# Altium footprint library SamacSys.PcbLib: 32 footprints (part 1 of 2)
Each footprint in its own frame and in the unit in brackets; x right, y up, seen from the top. Pads: shape width x height; smd on the part's side, far side on the other; paste and mask are expansions set on the pad; w line width, h text height; cw(c..) or ccw(c..) is an arc to the next point about the centre after c.
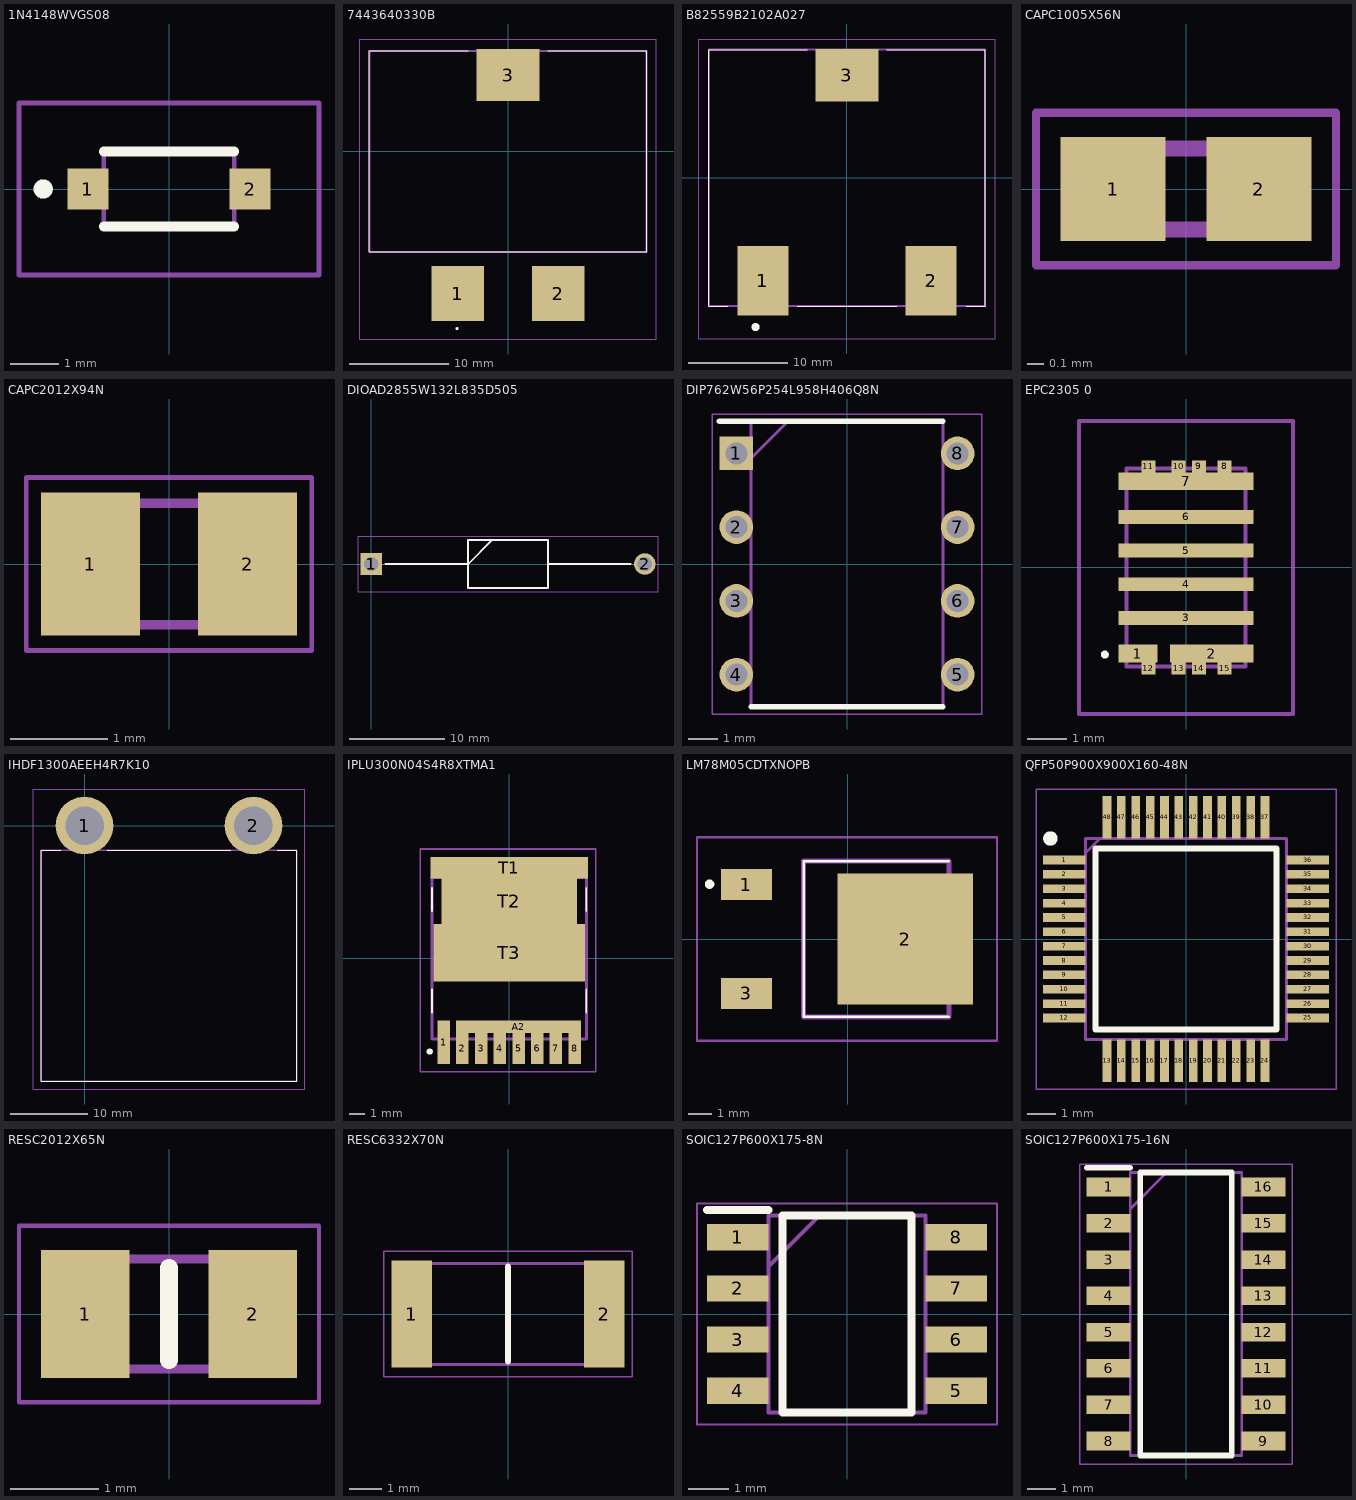
[diagram p0: the footprints below, top view; thin cyan lines are the x and y axes]

## 1N4148WVGS08 [mm]
pads (2):
  rect 0.85x0.85 smd: 1(-1.675,0) 2(1.675,0)
Top Overlay:
  lines w0.2: -1.35,-0.775 1.35,-0.775 ; -1.35,0.775 1.35,0.775 ; -2.6,-0.1 cw(c-2.6,0) -2.6,0.1 cw(c-2.6,0) -2.6,-0.1
Mechanical 13:
  lines w0.1: -1.35,-0.775 1.35,-0.775 1.35,0.775 -1.35,0.775 -1.35,-0.775
Mechanical 15:
  lines w0.1: -3.1,-1.775 3.1,-1.775 3.1,1.775 -3.1,1.775 -3.1,-1.775
3D body "1N4148W-V-GS08.stp": height 1.26, standoff 0, extent -1.854,-0.775 1.854,0.775

## 7443640330B [mm]
pads (3):
  rect 5.33x5.59 smd: 1(-5.075,-14.355) 2(5.075,-14.355)
  rect 6.35x5.28 smd: 3(0,7.72)
Top Overlay:
  lines w0.1: -14,-10.15 14,-10.15 ; -14,-10.15 14,-10.15 ; -14,-10.15 -14,10.15 ; -14,-10.15 -14,10.15 ; -14,10.15 -4,10.15 -14,10.15 ; 14,-10.15 14,10.15 ; 14,-10.15 14,10.15 ; 14,10.15 4,10.15 14,10.15
  lines w0.2: -5.2,-17.9 ccw(c-5.15,-17.9) -5.1,-17.9 ; -5.2,-17.9 cw(c-5.15,-17.9) -5.1,-17.9 ; -5.2,-17.9 ccw(c-5.15,-17.9) -5.1,-17.9
Mechanical 13:
  lines w0.2: -14,-10.15 -14,10.15 14,10.15 14,-10.15 -14,-10.15
Mechanical 15:
  lines w0.1: -15,-18.95 -15,11.36 15,11.36 15,-18.95 -15,-18.95
3D body "7443640330B.stp": height 18.25, standoff -0.27, extent -14,-16.4 14,10.6

## B82559B2102A027 [mm]
pads (3):
  rect 5.1x7 smd: 1(-8.45,-10.325) 2(8.45,-10.325)
  rect 6.3x5.3 smd: 3(0,10.325)
Top Overlay:
  lines w0.1: -12,-12.9 -13.9,-12.9 -13.9,12.9 -4,12.9 ; -5,-12.9 5,-12.9 ; 4,12.9 13.9,12.9 13.9,-12.9 12,-12.9
  lines w0.4: -9.4,-15 ccw(c-9.2,-15) -9,-15 ccw(c-9.2,-15) -9.4,-15
Mechanical 13:
  lines w0.2: -13.9,-12.9 -13.9,12.9 13.9,12.9 13.9,-12.9 -13.9,-12.9
Mechanical 15:
  lines w0.1: -14.9,-16.2 -14.9,13.975 14.9,13.975 14.9,-16.2 -14.9,-16.2
3D body "B82559B2102A027.stp": height 12.3, standoff 0, extent -13.9,-13.8 13.9,12.01

## CAPC1005X56N [mm]
pads (2):
  rect 0.65x0.64 smd: 1(-0.45,0) 2(0.45,0)
Mechanical 13:
  lines w0.1: -0.5,-0.25 0.5,-0.25 0.5,0.25 -0.5,0.25 -0.5,-0.25
Mechanical 15:
  lines w0.05: -0.925,-0.47 0.925,-0.47 0.925,0.47 -0.925,0.47 -0.925,-0.47
3D body "0402ZD225MAT2A.stp": height 0.56, standoff 0, extent -0.5,-0.25 0.5,0.25

## CAPC2012X94N [mm]
pads (2):
  rect 1.02x1.47 smd: 1(-0.81,0) 2(0.81,0)
Mechanical 13:
  lines w0.1: -1.005,-0.625 1.005,-0.625 1.005,0.625 -1.005,0.625 -1.005,-0.625
Mechanical 15:
  lines w0.05: -1.47,-0.89 1.47,-0.89 1.47,0.89 -1.47,0.89 -1.47,-0.89
3D body "08055A150JAT2A.stp": height 0.94, standoff 0, extent -1.005,-0.625 1.005,0.625

## DIOAD2855W132L835D505 [mm]
pads (2):
  rect 2.25x2.25 hole 1.5: 1(0,0)
  round 2.25 hole 1.5: 2(28.6,0)
Top Overlay:
  lines w0.2: 1.475,0 10.125,0 12.65,2.525 ; 18.475,0 27.125,0 ; 10.125,-2.525 10.125,2.525 18.475,2.525 18.475,-2.525 10.125,-2.525
Mechanical 13:
  lines w0.1: 0,0 10.125,0 12.65,2.525 ; 18.475,0 28.6,0 ; 10.125,-2.525 10.125,2.525 18.475,2.525 18.475,-2.525 10.125,-2.525
Mechanical 15:
  lines w0.05: -1.375,-2.875 -1.375,2.875 29.975,2.875 29.975,-2.875 -1.375,-2.875
3D body "1N5408-E3_54.stp": height 5.3, standoff -5.3, extent -0.655,-2.65 29.21,2.65

## DIP762W56P254L958H406Q8N [mm]
pads (8):
  rect 1.16x1.16 hole 0.76: 1(-3.81,3.81)
  round 1.16 hole 0.76: 2(-3.81,1.27) 3(-3.81,-1.27) 4(-3.81,-3.81) 5(3.81,-3.81) 6(3.81,-1.27) 7(3.81,1.27) 8(3.81,3.81)
Top Overlay:
  lines w0.2: -4.39,4.915 3.3,4.915 ; -3.3,-4.915 3.3,-4.915
Mechanical 13:
  lines w0.1: -3.3,3.645 -2.03,4.915 ; -3.3,-4.915 3.3,-4.915 3.3,4.915 -3.3,4.915 -3.3,-4.915
Mechanical 15:
  lines w0.05: -4.64,-5.165 4.64,-5.165 4.64,5.165 -4.64,5.165 -4.64,-5.165
3D body "TNY279PN.stp": height 4.06, standoff -3.5, extent -3.95,-4.788 3.95,4.788

## EPC2305 0 [mm]
pads (15):
  rect 0.975x0.45 smd: 1(-1.213,-2.175)
  rect 2.11x0.45 smd: 2(0.645,-2.175)
  rect 3.4x0.35 smd: 3(0,-1.275) 4(0,-0.425) 5(0,0.425) 6(0,1.275)
  rect 3.4x0.45 smd: 7(0,2.175)
  rect 0.35x0.3 smd: 8(0.975,2.55) 9(0.325,2.55) 10(-0.185,2.55) 11(-0.95,2.55) 12(-0.95,-2.55) 13(-0.185,-2.55) 14(0.325,-2.55) 15(0.975,-2.55)
Top Overlay:
  lines w0.1: -2.1,-2.2 ccw(c-2.05,-2.2) -2,-2.2 ccw(c-2.05,-2.2) -2.1,-2.2
Mechanical 13:
  lines w0.1: -1.5,-2.5 -1.5,2.5 1.5,2.5 1.5,-2.5 -1.5,-2.5
Mechanical 15:
  lines w0.1: -2.7,-3.7 -2.7,3.7 2.7,3.7 2.7,-3.7 -2.7,-3.7

## IHDF1300AEEH4R7K10 [mm]
pads (2):
  round 7.44 hole 4.96: 1(0,0) 2(21.8,0)
Top Overlay:
  lines w0.1: -3.1,-3.2 -5.6,-3.2 -5.6,-33 27.4,-33 27.4,-3.2 24.9,-3.2 ; 2.9,-3.2 18.9,-3.2
Mechanical 13:
  lines w0.2: -5.6,-33 -5.6,-3.2 27.4,-3.2 27.4,-33 -5.6,-33
Mechanical 15:
  lines w0.1: -6.6,-34 -6.6,4.72 28.4,4.72 28.4,-34 -6.6,-34
3D body "IHDF1300AEEH4R7K10.stp": height 15.5, standoff -5, extent -5.6,-33 27.4,2.377

## IPLU300N04S4R8XTMA1 [mm]
pads (12):
  rect 0.8x2.8 smd: 1(-4.2,-5.4)
  rect 0.8x2 smd: 2(-3,-5.8) 3(-1.8,-5.8) 4(-0.6,-5.8) 5(0.6,-5.8) 6(1.8,-5.8) 7(3,-5.8) 8(4.2,-5.8)
  rect 8x0.8 smd: A2(0.6,-4.4)
  rect 10.1x1.4 smd: T1(0,5.8)
  rect 8.7x2.9 smd: T2(0,3.65)
  rect 9.7x3.7 smd: T3(0,0.35)
Top Overlay:
  lines w0.1: -4.95,-3.5 -4.95,-2 ; -4.95,3 -4.95,4.5 ; 4.95,-3.5 4.95,-2 ; 4.95,3 4.95,4.5
  lines w0.2: -5.1,-6.1 ccw(c-5.1,-6) -5.1,-5.9 ccw(c-5.1,-6) -5.1,-6.1
Mechanical 13:
  lines w0.2: -4.95,-5.185 -4.95,5.185 4.95,5.185 4.95,-5.185 -4.95,-5.185
Mechanical 15:
  lines w0.1: -5.7,-7.3 -5.7,7 5.55,7 5.55,-7.3 -5.7,-7.3
3D body "User Library-H-PSOF-8-1.STEP": height 2.3, standoff 0, extent -4.95,-5.202 4.95,6.473

## LM78M05CDTXNOPB [mm]
pads (3):
  rect 2.15x1.3 smd: 1(-4.25,2.285) 3(-4.25,-2.285)
  rect 5.7x5.5 smd: 2(2.415,0)
Top Overlay:
  lines w0.1: 4.25,-3.27 -1.85,-3.27 -1.85,3.27 4.25,3.27
  lines w0.2: -5.8,2.2 cw(c-5.8,2.3) -5.8,2.4 cw(c-5.8,2.3) -5.8,2.2
Mechanical 13:
  lines w0.2: -1.85,-3.27 4.25,-3.27 4.25,3.27 -1.85,3.27 -1.85,-3.27
Mechanical 15:
  lines w0.1: -6.325,-4.27 6.265,-4.27 6.265,4.27 -6.325,4.27 -6.325,-4.27
3D body "LM78M05CDTX_NOPB.stp": height 2.73, standoff 0, extent -4.987,-3.27 4.922,3.27

## QFP50P900X900X160-48N [mm]
pads (48):
  rect 1.475x0.3 smd: 1(-4.238,2.75) 2(-4.238,2.25) 3(-4.238,1.75) 4(-4.238,1.25) 5(-4.238,0.75) 6(-4.238,0.25) 7(-4.238,-0.25) 8(-4.238,-0.75) 9(-4.238,-1.25) 10(-4.238,-1.75) 11(-4.238,-2.25) 12(-4.238,-2.75) 25(4.238,-2.75) 26(4.238,-2.25) 27(4.238,-1.75) 28(4.238,-1.25) 29(4.238,-0.75) 30(4.238,-0.25) 31(4.238,0.25) 32(4.238,0.75) 33(4.238,1.25) 34(4.238,1.75) 35(4.238,2.25) 36(4.238,2.75)
  rect 0.3x1.475 smd: 13(-2.75,-4.238) 14(-2.25,-4.238) 15(-1.75,-4.238) 16(-1.25,-4.238) 17(-0.75,-4.238) 18(-0.25,-4.238) 19(0.25,-4.238) 20(0.75,-4.238) 21(1.25,-4.238) 22(1.75,-4.238) 23(2.25,-4.238) 24(2.75,-4.238) 37(2.75,4.238) 38(2.25,4.238) 39(1.75,4.238) 40(1.25,4.238) 41(0.75,4.238) 42(0.25,4.238) 43(-0.25,4.238) 44(-0.75,4.238) 45(-1.25,4.238) 46(-1.75,4.238) 47(-2.25,4.238) 48(-2.75,4.238)
Top Overlay:
  circle w0.25: c-4.725,3.5 r0.125
  lines w0.2: -3.15,-3.15 3.15,-3.15 3.15,3.15 -3.15,3.15 -3.15,-3.15
Mechanical 13:
  lines w0.1: -3.5,3 -3,3.5 ; -3.5,-3.5 3.5,-3.5 3.5,3.5 -3.5,3.5 -3.5,-3.5
Mechanical 15:
  lines w0.05: -5.225,-5.225 5.225,-5.225 5.225,5.225 -5.225,5.225 -5.225,-5.225
3D body "STM32G431C6T6.stp": height 1.6, standoff 0, extent -4.5,-4.5 4.5,4.5

## RESC2012X65N [mm]
pads (2):
  rect 1x1.45 smd: 1(-0.95,0) 2(0.95,0)
Top Overlay:
  lines w0.2: 0,-0.525 0,0.525
Mechanical 13:
  lines w0.1: -1,-0.625 1,-0.625 1,0.625 -1,0.625 -1,-0.625
Mechanical 15:
  lines w0.05: -1.7,-1 1.7,-1 1.7,1 -1.7,1 -1.7,-1
3D body "CPF0805B100RE1.stp": height 0.65, standoff 0, extent -1,-0.625 1,0.625

## RESC6332X70N [mm]
pads (2):
  rect 1.25x3.35 smd: 1(-3,0) 2(3,0)
Top Overlay:
  lines w0.2: 0,-1.475 0,1.475
Mechanical 13:
  lines w0.1: -3.15,-1.575 -3.15,1.575 3.15,1.575 3.15,-1.575 -3.15,-1.575
Mechanical 15:
  lines w0.05: -3.875,-1.95 -3.875,1.95 3.875,1.95 3.875,-1.95 -3.875,-1.95
3D body "CRCW251215R0JNEG.stp": height 0.7, standoff 0, extent -3.15,-1.575 3.15,1.575

## SOIC127P600X175-8N [mm]
pads (8):
  rect 1.525x0.65 smd: 1(-2.712,1.905) 2(-2.712,0.635) 3(-2.712,-0.635) 4(-2.712,-1.905) 5(2.712,-1.905) 6(2.712,-0.635) 7(2.712,0.635) 8(2.712,1.905)
Top Overlay:
  lines w0.2: -3.475,2.58 -1.95,2.58 ; -1.6,-2.45 -1.6,2.45 1.6,2.45 1.6,-2.45 -1.6,-2.45
Mechanical 13:
  lines w0.1: -1.95,1.18 -0.68,2.45 ; -1.95,-2.45 -1.95,2.45 1.95,2.45 1.95,-2.45 -1.95,-2.45
Mechanical 15:
  lines w0.05: -3.725,-2.75 -3.725,2.75 3.725,2.75 3.725,-2.75 -3.725,-2.75
3D body "NE555DR.stp": height 1.75, standoff 0, extent -3,-2.45 3,2.45

## SOIC127P600X175-16N [mm]
pads (16):
  rect 1.525x0.65 smd: 1(-2.712,4.445) 2(-2.712,3.175) 3(-2.712,1.905) 4(-2.712,0.635) 5(-2.712,-0.635) 6(-2.712,-1.905) 7(-2.712,-3.175) 8(-2.712,-4.445) 9(2.712,-4.445) 10(2.712,-3.175) 11(2.712,-1.905) 12(2.712,-0.635) 13(2.712,0.635) 14(2.712,1.905) 15(2.712,3.175) 16(2.712,4.445)
Top Overlay:
  lines w0.2: -3.475,5.12 -1.95,5.12 ; -1.6,-4.95 1.6,-4.95 1.6,4.95 -1.6,4.95 -1.6,-4.95
Mechanical 13:
  lines w0.1: -1.95,3.68 -0.68,4.95 ; -1.95,-4.95 1.95,-4.95 1.95,4.95 -1.95,4.95 -1.95,-4.95
Mechanical 15:
  lines w0.05: -3.725,-5.25 3.725,-5.25 3.725,5.25 -3.725,5.25 -3.725,-5.25
3D body "SG2525AP.stp": height 1.75, standoff 0, extent -3,-4.95 3,4.95